# EAGLE library part 686124148922 (library Eagle_FPC_CONNECTOR_AND_FFC_CAB (rev18c))
WR-FPC 1mm SMT Horiz. Bot. Contact Hinge type WR-FPC 1mm 24 pins Hinge type SMT Horizontal Bottom Contact ;=>Code : Con_FPC_ZIF_1.00_6861xx148922_686124148922 <http://katalog.we-online.de/media/images/eican/Con_FPC_ZIF_1.00_686110148922_pf2.jpg> Details see: http://katalog.we-online.de/em/datasheet/6861xx148922.pdf Created 2014-10-08, Karrer Zheng 2014 (C) Wurth Elektronik
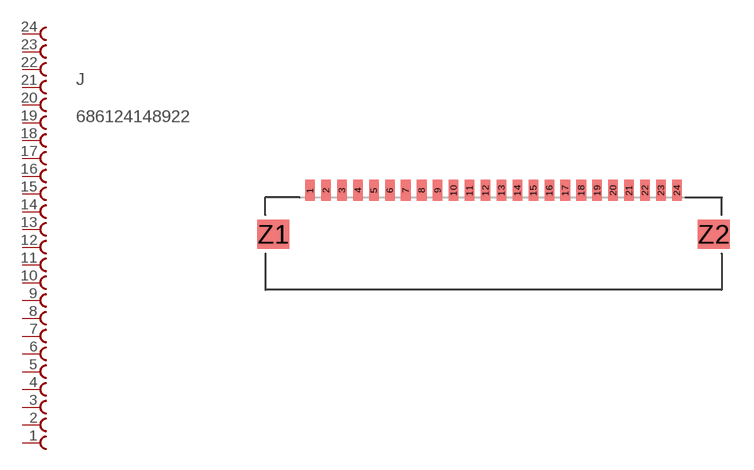
[diagram p100: symbol with the pads of 686124148922; footprint 686124148922]

Designator prefix J

## 686124148922  [686124148922]
1  24  pas
2  23  pas
3  22  pas
4  21  pas
5  20  pas
6  19  pas
7  18  pas
8  17  pas
9  16  pas
10  15  pas
11  14  pas
12  13  pas
13  12  pas
14  11  pas
15  10  pas
16  9  pas
17  8  pas
18  7  pas
19  6  pas
20  5  pas
21  4  pas
22  3  pas
23  2  pas
24  1  pas

## Footprint 686124148922 (pad centres in mm)
WR-FPC 1mm SMT Horiz. Bot. Contact Hinge type WR-FPC 1mm 24pins Hinge type SMT Horizontal Bottom Contact
smd 0.6 x 1.3: 1 -11.5,2.75; 2 -10.5,2.75; 3 -9.5,2.75; 4 -8.5,2.75; 5 -7.5,2.75; 6 -6.5,2.75; 7 -5.5,2.75; 8 -4.5,2.75; 9 -3.5,2.75; 10 -2.5,2.75; 11 -1.5,2.75; 12 -0.5,2.75; 13 0.5,2.75; 14 1.5,2.75; 15 2.5,2.75; 16 3.5,2.75; 17 4.5,2.75; 18 5.5,2.75; 19 6.5,2.75; 20 7.5,2.75; 21 8.5,2.75; 22 9.5,2.75; 23 10.5,2.75; 24 11.5,2.75
smd 2 x 1.8: Z1 -13.8,0; Z2 13.8,0